# Altium schematic symbol library ET6034Y.SchLib: 1 symbol
Pins are listed as number, name and electrical type; pins without a type are passive.

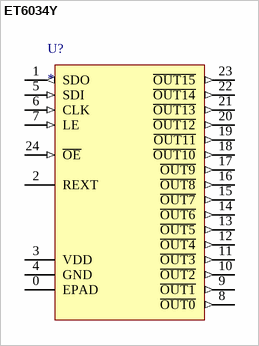
[diagram p0: symbol ET6034Y]

## ET6034Y
designator U?
ET6034Y is COMS Gate circuit chip
pins: 0 EPAD, 1 SDO (out), 2 REXT, 3 VDD (power), 4 GND (power), 5 SDI (in), 6 CLK (in), 7 LE (in), 8 ~{OUT0} (out), 9 ~{OUT1} (out), 10 ~{OUT2} (out), 11 ~{OUT3} (out), 12 ~{OUT4} (out), 13 ~{OUT5} (out), 14 ~{OUT6} (out), 15 ~{OUT7} (out), 16 ~{OUT8} (out), 17 ~{OUT9} (out), 18 ~{OUT10} (out), 19 ~{OUT11} (out), 20 ~{OUT12} (out), 21 ~{OUT13} (out), 22 ~{OUT14} (out), 23 ~{OUT15} (out), 24 ~{OE} (in)